# Altium footprint library R20_PCBM.PcbLib: 22 footprints (part 2 of 5)
Each footprint in its own frame and in the unit in brackets; x right, y up, seen from the top. Pads: shape width x height; smd on the part's side, far side on the other; paste and mask are expansions set on the pad; w line width, h text height; cw(c..) or ccw(c..) is an arc to the next point about the centre after c.
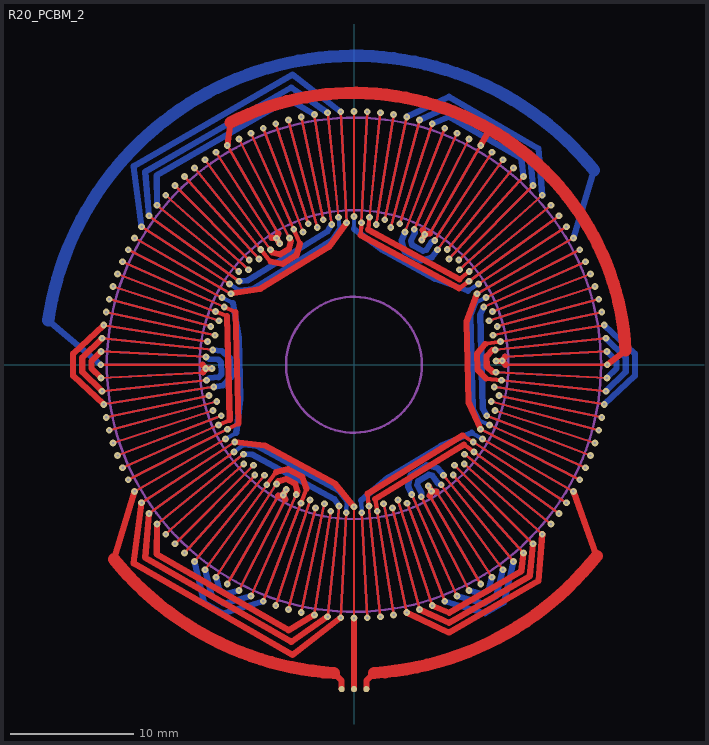
[diagram p1: the footprint, top view; thin cyan lines are the x and y axes]

## R20_PCBM_2 [mm]
pads (3):
  round 0.5 smd paste-2539.97 mask+0.102: A(1,-26.25) B(0,-26.25) C(-1,-26.25)
via -11.852,1.877 diameter 0.55 hole 0.2
via -10.506,4.677 diameter 0.55 hole 0.2
via -11.203,4.3 diameter 0.55 hole 0.2
via -10.692,5.448 diameter 0.55 hole 0.2
via -10.937,3.554 diameter 0.55 hole 0.2
via -11.249,2.391 diameter 0.55 hole 0.2
via -11.413,-3.708 diameter 0.55 hole 0.2
via -11.108,-2.976 diameter 0.55 hole 0.2
via -11.358,-1.799 diameter 0.55 hole 0.2
via -11.437,1.202 diameter 0.55 hole 0.2
via -11.934,-1.254 diameter 0.55 hole 0.2
via -11.996,-0.314 diameter 0.55 hole 0.2
via -11.591,3.106 diameter 0.55 hole 0.2
via -11.984,0.628 diameter 0.55 hole 0.2
via -11.738,-2.495 diameter 0.55 hole 0.2
via -10.736,-4.121 diameter 0.55 hole 0.2
via -20.5,0 diameter 0.55 hole 0.2
via -18.728,8.338 diameter 0.55 hole 0.2
via -19.497,6.335 diameter 0.55 hole 0.2
via -20.052,4.262 diameter 0.55 hole 0.2
via -20.388,2.143 diameter 0.55 hole 0.2
via -20.388,-2.143 diameter 0.55 hole 0.2
via -20.248,-3.207 diameter 0.55 hole 0.2
via -20.472,-1.073 diameter 0.55 hole 0.2
via -20.472,1.073 diameter 0.55 hole 0.2
via -20.248,3.207 diameter 0.55 hole 0.2
via -19.801,5.306 diameter 0.55 hole 0.2
via -19.138,7.347 diameter 0.55 hole 0.2
via -18.266,9.307 diameter 0.55 hole 0.2
via -20.052,-4.262 diameter 0.55 hole 0.2
via -19.497,-6.335 diameter 0.55 hole 0.2
via -19.801,-5.306 diameter 0.55 hole 0.2
via -19.138,-7.347 diameter 0.55 hole 0.2
via -10.392,-6 diameter 0.55 hole 0.2
via -10.247,-5.221 diameter 0.55 hole 0.2
via -10.963,-4.881 diameter 0.55 hole 0.2
via -18.728,-8.338 diameter 0.55 hole 0.2
via -18.266,-9.307 diameter 0.55 hole 0.2
via -17.754,-10.25 diameter 0.55 hole 0.2
via -11.496,-0.301 diameter 0.55 hole 0.2
via -6.009,9.805 diameter 0.55 hole 0.2
via -6.27,10.232 diameter 0.55 hole 0.2
via -10.25,17.754 diameter 0.55 hole 0.2
via -2.143,20.388 diameter 0.55 hole 0.2
via -4.262,20.052 diameter 0.55 hole 0.2
via -6.335,19.497 diameter 0.55 hole 0.2
via -8.338,18.728 diameter 0.55 hole 0.2
via -12.05,16.585 diameter 0.55 hole 0.2
via -12.901,15.931 diameter 0.55 hole 0.2
via -11.165,17.193 diameter 0.55 hole 0.2
via -9.307,18.266 diameter 0.55 hole 0.2
via -7.347,19.138 diameter 0.55 hole 0.2
via -5.306,19.801 diameter 0.55 hole 0.2
via -3.207,20.248 diameter 0.55 hole 0.2
via -1.073,20.472 diameter 0.55 hole 0.2
via -13.717,15.234 diameter 0.55 hole 0.2
via -15.234,13.717 diameter 0.55 hole 0.2
via -14.496,14.496 diameter 0.55 hole 0.2
via -15.931,12.901 diameter 0.55 hole 0.2
via -16.585,12.05 diameter 0.55 hole 0.2
via -17.193,11.165 diameter 0.55 hole 0.2
via -17.754,10.25 diameter 0.55 hole 0.2
via -0.602,11.484 diameter 0.55 hole 0.2
via -1.254,11.934 diameter 0.55 hole 0.2
via -1.799,11.358 diameter 0.55 hole 0.2
via -2.495,11.738 diameter 0.55 hole 0.2
via -2.976,11.108 diameter 0.55 hole 0.2
via -3.708,11.413 diameter 0.55 hole 0.2
via -4.121,10.736 diameter 0.55 hole 0.2
via -4.881,10.963 diameter 0.55 hole 0.2
via -5.221,10.247 diameter 0.55 hole 0.2
via -6.76,9.304 diameter 0.55 hole 0.2
via -7.552,9.326 diameter 0.55 hole 0.2
via -7.695,8.546 diameter 0.55 hole 0.2
via -8.485,8.485 diameter 0.55 hole 0.2
via -8.546,7.695 diameter 0.55 hole 0.2
via -9.326,7.552 diameter 0.55 hole 0.2
via -9.304,6.76 diameter 0.55 hole 0.2
via -10.064,6.536 diameter 0.55 hole 0.2
via -9.959,5.75 diameter 0.55 hole 0.2
via 7.552,9.326 diameter 0.55 hole 0.2
via 9.304,6.76 diameter 0.55 hole 0.2
via 9.326,7.552 diameter 0.55 hole 0.2
via 10.064,6.536 diameter 0.55 hole 0.2
via 8.546,7.695 diameter 0.55 hole 0.2
via 7.695,8.546 diameter 0.55 hole 0.2
via 2.495,11.738 diameter 0.55 hole 0.2
via 2.976,11.108 diameter 0.55 hole 0.2
via 4.121,10.736 diameter 0.55 hole 0.2
via 6.76,9.304 diameter 0.55 hole 0.2
via 4.881,10.963 diameter 0.55 hole 0.2
via 5.726,10.546 diameter 0.55 hole 0.2
via 8.485,8.485 diameter 0.55 hole 0.2
via 6.536,10.064 diameter 0.55 hole 0.2
via 3.708,11.413 diameter 0.55 hole 0.2
via 1.799,11.358 diameter 0.55 hole 0.2
via 10.25,17.754 diameter 0.55 hole 0.2
via 16.585,12.05 diameter 0.55 hole 0.2
via 15.234,13.717 diameter 0.55 hole 0.2
via 13.717,15.234 diameter 0.55 hole 0.2
via 12.05,16.585 diameter 0.55 hole 0.2
via 8.338,18.728 diameter 0.55 hole 0.2
via 7.347,19.138 diameter 0.55 hole 0.2
via 9.307,18.266 diameter 0.55 hole 0.2
via 11.165,17.193 diameter 0.55 hole 0.2
via 12.901,15.931 diameter 0.55 hole 0.2
via 14.496,14.496 diameter 0.55 hole 0.2
via 15.931,12.901 diameter 0.55 hole 0.2
via 17.193,11.165 diameter 0.55 hole 0.2
via 6.335,19.497 diameter 0.55 hole 0.2
via 4.262,20.052 diameter 0.55 hole 0.2
via 5.306,19.801 diameter 0.55 hole 0.2
via 3.207,20.248 diameter 0.55 hole 0.2
via 0,12 diameter 0.55 hole 0.2
via 0.602,11.484 diameter 0.55 hole 0.2
via 1.254,11.934 diameter 0.55 hole 0.2
via 2.143,20.388 diameter 0.55 hole 0.2
via 1.073,20.472 diameter 0.55 hole 0.2
via 0,20.5 diameter 0.55 hole 0.2
via 5.487,10.106 diameter 0.55 hole 0.2
via 11.496,0.301 diameter 0.55 hole 0.2
via 11.996,0.314 diameter 0.55 hole 0.2
via 20.5,0 diameter 0.55 hole 0.2
via 18.728,-8.338 diameter 0.55 hole 0.2
via 19.497,-6.335 diameter 0.55 hole 0.2
via 20.052,-4.262 diameter 0.55 hole 0.2
via 20.388,-2.143 diameter 0.55 hole 0.2
via 20.388,2.143 diameter 0.55 hole 0.2
via 20.248,3.207 diameter 0.55 hole 0.2
via 20.472,1.073 diameter 0.55 hole 0.2
via 20.472,-1.073 diameter 0.55 hole 0.2
via 20.248,-3.207 diameter 0.55 hole 0.2
via 19.801,-5.306 diameter 0.55 hole 0.2
via 19.138,-7.347 diameter 0.55 hole 0.2
via 18.266,-9.307 diameter 0.55 hole 0.2
via 20.052,4.262 diameter 0.55 hole 0.2
via 19.497,6.335 diameter 0.55 hole 0.2
via 19.801,5.306 diameter 0.55 hole 0.2
via 19.138,7.347 diameter 0.55 hole 0.2
via 18.728,8.338 diameter 0.55 hole 0.2
via 18.266,9.307 diameter 0.55 hole 0.2
via 17.754,10.25 diameter 0.55 hole 0.2
via 10.247,-5.221 diameter 0.55 hole 0.2
via 10.963,-4.881 diameter 0.55 hole 0.2
via 10.736,-4.121 diameter 0.55 hole 0.2
via 11.413,-3.708 diameter 0.55 hole 0.2
via 11.108,-2.976 diameter 0.55 hole 0.2
via 11.738,-2.495 diameter 0.55 hole 0.2
via 11.358,-1.799 diameter 0.55 hole 0.2
via 11.934,-1.254 diameter 0.55 hole 0.2
via 11.484,-0.602 diameter 0.55 hole 0.2
via 11.437,1.202 diameter 0.55 hole 0.2
via 11.852,1.877 diameter 0.55 hole 0.2
via 11.249,2.391 diameter 0.55 hole 0.2
via 11.591,3.106 diameter 0.55 hole 0.2
via 10.937,3.554 diameter 0.55 hole 0.2
via 11.203,4.3 diameter 0.55 hole 0.2
via 10.506,4.677 diameter 0.55 hole 0.2
via 10.692,5.448 diameter 0.55 hole 0.2
via 9.959,5.75 diameter 0.55 hole 0.2
via 4.3,-11.203 diameter 0.55 hole 0.2
via 1.202,-11.437 diameter 0.55 hole 0.2
via 1.877,-11.852 diameter 0.55 hole 0.2
via 0.628,-11.984 diameter 0.55 hole 0.2
via 2.391,-11.249 diameter 0.55 hole 0.2
via 3.554,-10.937 diameter 0.55 hole 0.2
via 8.918,-8.03 diameter 0.55 hole 0.2
via 8.132,-8.132 diameter 0.55 hole 0.2
via 7.237,-8.937 diameter 0.55 hole 0.2
via 4.677,-10.506 diameter 0.55 hole 0.2
via 7.053,-9.708 diameter 0.55 hole 0.2
via 6.27,-10.232 diameter 0.55 hole 0.2
via 3.106,-11.591 diameter 0.55 hole 0.2
via 5.448,-10.692 diameter 0.55 hole 0.2
via 8.03,-8.918 diameter 0.55 hole 0.2
via 8.937,-7.237 diameter 0.55 hole 0.2
via 10.25,-17.754 diameter 0.55 hole 0.2
via 2.143,-20.388 diameter 0.55 hole 0.2
via 4.262,-20.052 diameter 0.55 hole 0.2
via 6.335,-19.497 diameter 0.55 hole 0.2
via 8.338,-18.728 diameter 0.55 hole 0.2
via 12.05,-16.585 diameter 0.55 hole 0.2
via 12.901,-15.931 diameter 0.55 hole 0.2
via 11.165,-17.193 diameter 0.55 hole 0.2
via 9.307,-18.266 diameter 0.55 hole 0.2
via 7.347,-19.138 diameter 0.55 hole 0.2
via 5.306,-19.801 diameter 0.55 hole 0.2
via 3.207,-20.248 diameter 0.55 hole 0.2
via 1.073,-20.472 diameter 0.55 hole 0.2
via 13.717,-15.234 diameter 0.55 hole 0.2
via 15.234,-13.717 diameter 0.55 hole 0.2
via 14.496,-14.496 diameter 0.55 hole 0.2
via 15.931,-12.901 diameter 0.55 hole 0.2
via 10.392,-6 diameter 0.55 hole 0.2
via 9.645,-6.263 diameter 0.55 hole 0.2
via 9.708,-7.053 diameter 0.55 hole 0.2
via 16.585,-12.05 diameter 0.55 hole 0.2
via 17.193,-11.165 diameter 0.55 hole 0.2
via 17.754,-10.25 diameter 0.55 hole 0.2
via 6.009,-9.805 diameter 0.55 hole 0.2
via -5.487,-10.106 diameter 0.55 hole 0.2
via -5.726,-10.546 diameter 0.55 hole 0.2
via -10.25,-17.754 diameter 0.55 hole 0.2
via -16.585,-12.05 diameter 0.55 hole 0.2
via -15.234,-13.717 diameter 0.55 hole 0.2
via -13.717,-15.234 diameter 0.55 hole 0.2
via -12.05,-16.585 diameter 0.55 hole 0.2
via -8.338,-18.728 diameter 0.55 hole 0.2
via -7.347,-19.138 diameter 0.55 hole 0.2
via -9.307,-18.266 diameter 0.55 hole 0.2
via -11.165,-17.193 diameter 0.55 hole 0.2
via -12.901,-15.931 diameter 0.55 hole 0.2
via -14.496,-14.496 diameter 0.55 hole 0.2
via -15.931,-12.901 diameter 0.55 hole 0.2
via -17.193,-11.165 diameter 0.55 hole 0.2
via -6.335,-19.497 diameter 0.55 hole 0.2
via -4.262,-20.052 diameter 0.55 hole 0.2
via -5.306,-19.801 diameter 0.55 hole 0.2
via -3.207,-20.248 diameter 0.55 hole 0.2
via -2.143,-20.388 diameter 0.55 hole 0.2
via -1.073,-20.472 diameter 0.55 hole 0.2
via 0,-20.5 diameter 0.55 hole 0.2
via -9.645,-6.263 diameter 0.55 hole 0.2
via -9.708,-7.053 diameter 0.55 hole 0.2
via -8.937,-7.237 diameter 0.55 hole 0.2
via -8.918,-8.03 diameter 0.55 hole 0.2
via -8.132,-8.132 diameter 0.55 hole 0.2
via -8.03,-8.918 diameter 0.55 hole 0.2
via -7.237,-8.937 diameter 0.55 hole 0.2
via -7.053,-9.708 diameter 0.55 hole 0.2
via -6.263,-9.645 diameter 0.55 hole 0.2
via -4.677,-10.506 diameter 0.55 hole 0.2
via -4.3,-11.203 diameter 0.55 hole 0.2
via -3.554,-10.937 diameter 0.55 hole 0.2
via -3.106,-11.591 diameter 0.55 hole 0.2
via -2.391,-11.249 diameter 0.55 hole 0.2
via -1.877,-11.852 diameter 0.55 hole 0.2
via -1.202,-11.437 diameter 0.55 hole 0.2
via -0.628,-11.984 diameter 0.55 hole 0.2
via 0,-11.5 diameter 0.55 hole 0.2
via -10.25,17.754 diameter 0.55 hole 0.2
via -17.754,10.25 diameter 0.55 hole 0.2
via 10.25,17.754 diameter 0.55 hole 0.2
via 20.5,0 diameter 0.55 hole 0.2
via 17.754,10.25 diameter 0.55 hole 0.2
Top Layer:
  lines w0.2: -20.5,0 -12.25,0 ; -20.472,-1.073 -12.233,-0.641 ; -20.472,1.073 -11.984,0.628 ; -20.388,-2.143 -11.934,-1.254 ; -20.388,2.143 -11.437,1.202 ; -20.248,-3.207 -11.358,-1.799 ; -20.248,3.207 -11.852,1.877 ; -20.052,-4.262 -11.738,-2.495 ; -20.052,4.262 -11.249,2.391 ; -19.801,-5.306 -11.108,-2.976 ; -19.801,5.306 -11.591,3.106 ; -19.497,-6.335 -11.413,-3.708 ; -19.497,6.335 -10.937,3.554 ; -19.138,-7.347 -10.736,-4.121 ; -19.138,7.347 -11.203,4.3 ; -18.728,-8.338 -10.963,-4.881 ; -18.728,8.338 -10.506,4.677 ; -18.266,-9.307 -10.247,-5.221 ; -18.266,9.307 -10.692,5.448 ; -17.754,-10.25 -10.392,-6 ; -17.754,10.25 -9.959,5.75 ; -17.193,-11.165 -9.645,-6.263 ; -17.193,11.165 -10.064,6.536 ; -16.585,-12.05 -9.708,-7.053 ; -16.585,12.05 -9.304,6.76 ; -15.931,-12.901 -8.937,-7.237 ; -15.931,12.901 -9.326,7.552 ; -15.234,-13.717 -8.918,-8.03 ; -15.234,13.717 -8.546,7.695 ; -14.496,-14.496 -8.132,-8.132 ; -14.496,14.496 -8.485,8.485 ; -13.717,-15.234 -8.03,-8.918 ; -13.717,15.234 -7.695,8.546 ; -12.901,-15.931 -7.237,-8.937 ; -12.901,15.931 -7.552,9.326 ; -12.05,-16.585 -7.053,-9.708 ; -12.05,16.585 -6.76,9.304 ; -11.165,-17.193 -6.263,-9.645 ; -11.165,17.193 -6.672,10.274 ; -10.25,-17.754 -6.125,-10.609 ; -10.25,17.754 -6.125,10.609 ; -9.307,-18.266 -5.561,-10.915 ; -9.307,18.266 -5.221,10.247 ; -8.338,-18.728 -4.677,-10.506 ; -8.338,18.728 -4.881,10.963 ; -7.347,-19.138 -4.3,-11.203 ; -7.347,19.138 -4.121,10.736 ; -6.335,-19.497 -3.554,-10.937 ; -6.335,19.497 -3.708,11.413 ; -5.306,-19.801 -3.106,-11.591 ; -5.306,19.801 -2.976,11.108 ; -4.262,-20.052 -2.391,-11.249 ; -4.262,20.052 -2.495,11.738 ; -3.207,-20.248 -1.877,-11.852 ; -3.207,20.248 -1.799,11.358 ; -2.143,-20.388 -1.202,-11.437 ; -2.143,20.388 -1.254,11.934 ; -1.073,-20.472 -0.628,-11.984 ; -1.073,20.472 -0.602,11.484 ; 0,-20.5 0,-11.5 ; 0,12 0,20.5 ; 0.602,11.484 1.073,20.472 ; 0.628,-11.984 1.073,-20.472 ; 1.202,-11.437 2.143,-20.388 ; 1.254,11.934 2.143,20.388 ; 1.799,11.358 3.207,20.248 ; 1.877,-11.852 3.207,-20.248 ; 2.391,-11.249 4.262,-20.052 ; 2.495,11.738 4.262,20.052 ; 2.976,11.108 5.306,19.801 ; 3.106,-11.591 5.306,-19.801 ; 3.554,-10.937 6.335,-19.497 ; 3.708,11.413 6.335,19.497 ; 4.121,10.736 7.347,19.138 ; 4.3,-11.203 7.347,-19.138 ; 4.677,-10.506 8.338,-18.728 ; 4.881,10.963 8.338,18.728 ; 5.448,-10.692 9.307,-18.266 ; 5.561,10.915 9.307,18.266 ; 6.125,-10.609 10.25,-17.754 ; 6.125,10.609 10.25,17.754 ; 6.536,10.064 11.165,17.193 ; 6.672,-10.274 11.165,-17.193 ; 6.76,9.304 12.05,16.585 ; 7.053,-9.708 12.05,-16.585 ; 7.237,-8.937 12.901,-15.931 ; 7.552,9.326 12.901,15.931 ; 7.695,8.546 13.717,15.234 ; 8.03,-8.918 13.717,-15.234 ; 8.132,-8.132 14.496,-14.496 ; 8.485,8.485 14.496,14.496 ; 8.546,7.695 15.234,13.717 ; 8.918,-8.03 15.234,-13.717 ; 8.937,-7.237 15.931,-12.901 ; 9.304,6.76 16.585,12.05 ; 9.326,7.552 15.931,12.901 ; 9.645,-6.263 17.193,-11.165 ; 9.708,-7.053 16.585,-12.05 ; 9.959,5.75 17.754,10.25 ; 10.064,6.536 17.193,11.165 ; 10.247,-5.221 18.266,-9.307 ; 10.392,-6 17.754,-10.25 ; 10.506,4.677 18.728,8.338 ; 10.692,5.448 18.266,9.307 ; 10.736,-4.121 19.138,-7.347 ; 10.937,3.554 19.497,6.335 ; 10.963,-4.881 18.728,-8.338 ; 11.108,-2.976 19.801,-5.306 ; 11.203,4.3 19.138,7.347 ; 11.249,2.391 20.052,4.262 ; 11.358,-1.799 20.248,-3.207 ; 11.413,-3.708 19.497,-6.335 ; 11.437,1.202 20.388,2.143 ; 11.484,-0.602 20.472,-1.073 ; 11.591,3.106 19.801,5.306 ; 11.738,-2.495 20.052,-4.262 ; 11.852,1.877 20.248,3.207 ; 11.934,-1.254 20.388,-2.143 ; 12.233,0.641 20.472,1.073 ; 12.25,0 20.5,0
  lines w0.35: -11.203,4.3 -10.269,3.942 ; -10.963,-4.881 -10.049,-4.474 ; -10.506,4.677 -9.592,4.271 ; -10.247,-5.221 -9.356,-4.767 ; -7.552,9.326 -6.765,8.354 ; -7.053,-9.708 -6.319,-8.697 ; -4.881,10.963 -4.372,9.821 ; -4.3,-11.203 -3.852,-10.036 ; 0.55,10.486 0.602,11.484 ; 1.098,-10.442 1.202,-11.437 ; 1.15,10.94 1.254,11.934 ; 1.721,-10.865 1.877,-11.852 ; 8.495,6.172 9.304,6.76 ; 8.549,6.923 9.326,7.552 ; 8.806,-5.719 9.645,-6.263 ; 8.899,-6.466 9.708,-7.053 ; 10.618,1.682 11.852,1.877 ; 10.691,-1.124 11.934,-1.254
  lines w0.5: -20.472,-1.073 -21.248,-0.278 -21.248,0.278 -20.472,1.073 ; -20.388,-2.143 -21.992,-0.576 -21.992,0.576 -20.388,2.143 ; -20.248,-3.207 -22.732,-0.893 -22.732,0.893 -20.248,3.207 ; -19.429,-15.733 -17.754,-10.25 ; -17.193,-11.165 -17.835,-16.059 -4.99,-23.475 -1.073,-20.472 ; -16.585,-12.05 -16.889,-15.612 -5.076,-22.433 -2.143,-20.388 ; -15.931,-12.901 -15.96,-15.323 -5.29,-21.483 -3.207,-20.248 ; -12.25,0 -11.996,-0.314 ; -12.233,-0.641 -11.996,-0.314 ; -11.496,-0.301 -11.996,-0.314 ; -10.269,3.942 -10.049,-4.474 ; -10.25,17.754 -9.988,19.602 ; -9.959,5.75 -7.577,6.136 -2.027,9.537 -0.602,11.484 ; -9.645,-6.263 -7.246,-6.524 -1.525,-9.63 0,-11.5 ; -9.592,4.271 -9.356,-4.767 ; -6.765,8.354 -5.771,8.166 -4.656,8.85 -4.372,9.821 ; -6.76,9.304 -6.613,9.101 -5.972,8.938 -5.253,9.379 -5.107,10.024 -5.221,10.247 ; -6.672,10.274 -6.27,10.232 ; -6.319,-8.697 -5.336,-8.457 -4.187,-9.081 -3.852,-10.036 ; -6.263,-9.645 -6.127,-9.435 -5.496,-9.239 -4.755,-9.641 -4.576,-10.277 -4.677,-10.506 ; -6.125,-10.609 -5.726,-10.546 ; -6.125,10.609 -6.27,10.232 ; -6.009,9.805 -6.27,10.232 ; -5.561,-10.915 -5.726,-10.546 ; -5.487,-10.106 -5.726,-10.546 ; -1.635,-24.946 -1,-25.582 -1,-26.25 ; 0,-26.25 0,-20.5 ; 0.55,10.486 8.495,6.172 ; 1,-26.25 1,-25.581 1.635,-24.946 ; 1.098,-10.442 8.806,-5.719 ; 1.15,10.94 8.549,6.923 ; 1.721,-10.865 8.899,-6.466 ; 4.262,-20.052 7.678,-21.681 14.937,-17.489 15.234,-13.717 ; 5.306,-19.801 7.701,-20.875 14.227,-17.107 14.496,-14.496 ; 5.487,10.106 5.726,10.546 ; 5.561,10.915 5.726,10.546 ; 6.009,-9.805 6.27,-10.232 ; 6.125,-10.609 6.27,-10.232 ; 6.125,10.609 5.726,10.546 ; 6.335,-19.497 7.705,-20.072 13.53,-16.709 13.717,-15.234 ; 6.672,-10.274 6.27,-10.232 ; 9.959,5.75 9.102,3.494 9.273,-3.013 10.247,-5.221 ; 10.25,17.754 11,19.053 ; 10.618,1.682 9.958,0.915 9.992,-0.393 10.691,-1.124 ; 11.437,1.202 11.188,1.176 10.727,0.703 10.749,-0.141 11.235,-0.589 11.484,-0.602 ; 11.496,0.301 11.996,0.314 ; 12.233,0.641 11.996,0.314 ; 12.25,0 11.996,0.314 ; 17.753,-10.25 19.633,-15.477 ; 20.5,0 21.97,1.151
  lines w1: -19.429,-15.733 ccw(c0,0) -1.635,-24.946 ; -9.988,19.602 cw(c0,0) 21.97,1.151 ; 1.635,-24.946 ccw(c0,0) 19.633,-15.477
Layer 1:
  lines w0.2: -20.5,0 -12.25,0 ; -20.472,-1.073 -12.233,-0.641 ; -20.472,1.073 -11.984,0.628 ; -20.388,-2.143 -11.934,-1.254 ; -20.388,2.143 -11.437,1.202 ; -20.248,-3.207 -11.358,-1.799 ; -20.248,3.207 -11.852,1.877 ; -20.052,-4.262 -11.738,-2.495 ; -20.052,4.262 -11.249,2.391 ; -19.801,-5.306 -11.108,-2.976 ; -19.801,5.306 -11.591,3.106 ; -19.497,-6.335 -11.413,-3.708 ; -19.497,6.335 -10.937,3.554 ; -19.138,-7.347 -10.736,-4.121 ; -19.138,7.347 -11.203,4.3 ; -18.728,-8.338 -10.963,-4.881 ; -18.728,8.338 -10.506,4.677 ; -18.266,-9.307 -10.247,-5.221 ; -18.266,9.307 -10.692,5.448 ; -17.754,-10.25 -10.392,-6 ; -17.754,10.25 -9.959,5.75 ; -17.193,-11.165 -9.645,-6.263 ; -17.193,11.165 -10.064,6.536 ; -16.585,-12.05 -9.708,-7.053 ; -16.585,12.05 -9.304,6.76 ; -15.931,-12.901 -8.937,-7.237 ; -15.931,12.901 -9.326,7.552 ; -15.234,-13.717 -8.918,-8.03 ; -15.234,13.717 -8.546,7.695 ; -14.496,-14.496 -8.132,-8.132 ; -14.496,14.496 -8.485,8.485 ; -13.717,-15.234 -8.03,-8.918 ; -13.717,15.234 -8.03,8.918 -7.695,8.546 ; -12.901,-15.931 -7.237,-8.937 ; -12.901,15.931 -7.552,9.326 ; -12.05,-16.585 -7.053,-9.708 ; -12.05,16.585 -6.76,9.304 ; -11.165,-17.193 -6.263,-9.645 ; -11.165,17.193 -6.672,10.274 ; -10.25,-17.754 -6.125,-10.609 ; -10.25,17.754 -6.125,10.609 ; -9.307,-18.266 -5.561,-10.915 ; -9.307,18.266 -5.221,10.247 ; -8.338,-18.728 -4.677,-10.506 ; -8.338,18.728 -4.881,10.963 ; -7.347,-19.138 -4.3,-11.203 ; -7.347,19.138 -4.121,10.736 ; -6.335,-19.497 -3.708,-11.413 -3.554,-10.937 ; -6.335,19.497 -3.708,11.413 ; -5.306,-19.801 -3.106,-11.591 ; -5.306,19.801 -2.976,11.108 ; -4.262,-20.052 -2.391,-11.249 ; -4.262,20.052 -2.495,11.738 ; -3.207,-20.248 -1.877,-11.852 ; -3.207,20.248 -1.799,11.358 ; -2.143,-20.388 -1.202,-11.437 ; -2.143,20.388 -1.254,11.934 ; -1.073,-20.472 -0.628,-11.984 ; -1.073,20.472 -0.602,11.484 ; 0,-20.5 0,-11.5 ; 0,12 0,20.5 ; 0.602,11.484 1.073,20.472 ; 0.628,-11.984 1.073,-20.472 ; 1.202,-11.437 2.143,-20.388 ; 1.254,11.934 2.143,20.388 ; 1.799,11.358 3.207,20.248 ; 1.877,-11.852 3.207,-20.248 ; 2.391,-11.249 4.262,-20.052 ; 2.495,11.738 4.262,20.052 ; 2.976,11.108 5.306,19.801 ; 3.106,-11.591 5.306,-19.801 ; 3.554,-10.937 6.335,-19.497 ; 3.708,11.413 6.335,19.497 ; 4.121,10.736 7.347,19.138 ; 4.3,-11.203 7.347,-19.138 ; 4.677,-10.506 8.338,-18.728 ; 4.881,10.963 8.338,18.728 ; 5.448,-10.692 9.307,-18.266 ; 5.561,10.915 9.307,18.266 ; 6.125,-10.609 10.25,-17.754 ; 6.125,10.609 10.25,17.754 ; 6.536,10.064 11.165,17.193 ; 6.672,-10.274 11.165,-17.193 ; 6.76,9.304 12.05,16.585 ; 7.053,-9.708 12.05,-16.585 ; 7.237,-8.937 12.901,-15.931 ; 7.552,9.326 12.901,15.931 ; 7.695,8.546 13.717,15.234 ; 8.03,-8.918 13.717,-15.234 ; 8.132,-8.132 14.496,-14.496 ; 8.485,8.485 14.496,14.496 ; 8.546,7.695 15.234,13.717 ; 8.918,-8.03 15.234,-13.717 ; 8.937,-7.237 15.931,-12.901 ; 9.304,6.76 16.585,12.05 ; 9.326,7.552 15.931,12.901 ; 9.645,-6.263 17.193,-11.165 ; 9.708,-7.053 16.585,-12.05 ; 9.959,5.75 17.754,10.25 ; 10.064,6.536 17.193,11.165 ; 10.247,-5.221 18.266,-9.307 ; 10.392,-6 17.754,-10.25 ; 10.506,4.677 18.728,8.338 ; 10.692,5.448 18.266,9.307 ; 10.736,-4.121 19.138,-7.347 ; 10.937,3.554 19.497,6.335 ; 10.963,-4.881 18.728,-8.338 ; 11.108,-2.976 19.801,-5.306 ; 11.203,4.3 19.138,7.347 ; 11.249,2.391 11.738,2.495 20.052,4.262 ; 11.358,-1.799 20.248,-3.207 ; 11.413,-3.708 19.497,-6.335 ; 11.437,1.202 20.388,2.143 ; 11.484,-0.602 20.472,-1.073 ; 11.591,3.106 19.801,5.306 ; 11.738,-2.495 20.052,-4.262 ; 11.852,1.877 20.248,3.207 ; 11.934,-1.254 20.388,-2.143 ; 12.233,0.641 20.472,1.073 ; 12.25,0 20.5,0
  lines w0.35: -11.852,1.877 -10.865,1.721 ; -11.738,-2.495 -10.76,-2.287 ; -11.249,2.391 -10.271,2.183 ; -11.108,-2.976 -10.142,-2.718 ; -8.485,8.485 -7.778,7.778 ; -8.03,-8.918 -7.36,-8.175 ; -3.708,11.413 -3.399,10.462 ; -3.106,-11.591 -2.847,-10.625 ; 2.718,10.142 2.976,11.108 ; 3.245,-9.986 3.554,-10.937 ; 3.399,10.462 3.708,11.413 ; 3.942,-10.269 4.3,-11.203 ; 6.923,8.549 7.552,9.326 ; 7.026,7.803 7.695,8.546 ; 7.36,-8.175 8.03,-8.918 ; 7.425,-7.425 8.132,-8.132 ; 10.625,2.847 11.591,3.106 ; 10.76,-2.287 11.738,-2.495
  lines w0.5: -23.339,8.959 -17.754,10.25 ; -20.052,-4.262 -21.235,-3.363 -21.235,3.363 -20.052,4.262 ; -19.801,-5.306 -21.929,-3.768 -21.929,3.768 -19.801,5.306 ; -19.497,-6.335 -22.615,-4.191 -22.615,4.191 -19.497,6.335 ; -15.234,-13.717 -14.937,-17.489 -7.678,-21.681 -4.262,-20.052 ; -15.234,13.717 -14.937,17.489 -7.678,21.681 -4.262,20.052 ; -14.496,-14.496 -14.227,-17.107 -7.701,-20.875 -5.306,-19.801 ; -14.496,14.496 -14.227,17.107 -7.701,20.875 -5.306,19.801 ; -13.717,-15.234 -13.53,-16.709 -7.705,-20.072 -6.335,-19.497 ; -13.717,15.234 -13.53,16.709 -7.705,20.072 -6.335,19.497 ; -12.25,0 -11.996,-0.314 ; -12.233,-0.641 -11.996,-0.314 ; -11.496,-0.301 -11.996,-0.314 ; -10.865,1.721 -10.456,0.961 -10.391,-1.507 -10.76,-2.287 ; -10.271,2.183 -9.697,1.019 -9.63,-1.525 -10.142,-2.718 ; -7.778,7.778 -6.593,7.518 -3.706,9.288 -3.399,10.462 ; -7.695,8.546 -6.765,8.354 -4.372,9.821 -4.121,10.736 ; -7.36,-8.175 -6.191,-7.853 -3.214,-9.469 -2.847,-10.625 ; -7.237,-8.937 -6.319,-8.697 -3.852,-10.036 -3.554,-10.937 ; -6.672,10.274 -6.27,10.232 ; -6.125,-10.609 -5.726,-10.546 ; -6.125,10.609 -6.27,10.232 ; -6.009,9.805 -6.27,10.232 ; -5.561,-10.915 -5.726,-10.546 ; -5.487,-10.106 -5.726,-10.546 ; 2.718,10.142 3.494,9.102 5.731,7.888 7.026,7.803 ; 3.245,-9.986 3.966,-8.907 6.136,-7.577 7.425,-7.425 ; 3.399,10.462 3.891,9.752 6.06,8.575 6.923,8.549 ; 3.942,-10.269 4.396,-9.535 6.5,-8.246 7.36,-8.175 ; 5.487,10.106 5.726,10.546 ; 5.561,10.915 5.726,10.546 ; 6.009,-9.805 6.27,-10.232 ; 6.125,-10.609 6.27,-10.232 ; 6.125,10.609 5.726,10.546 ; 6.672,-10.274 6.27,-10.232 ; 7.347,19.138 10.593,20.133 12.14,19.24 12.901,15.931 ; 8.338,18.728 10.497,19.334 11.495,18.758 12.05,16.585 ; 9.264,-23.22 10.25,-17.754 ; 9.307,18.266 10.383,18.54 10.865,18.262 11.165,17.193 ; 10.625,2.847 9.808,1.951 9.896,-1.435 10.76,-2.287 ; 11.249,2.391 10.618,1.682 10.691,-1.124 11.358,-1.799 ; 11.496,0.301 11.996,0.314 ; 12.233,0.641 11.996,0.314 ; 12.25,0 11.996,0.314 ; 19.497,-6.335 22.615,-4.191 22.615,4.191 19.497,6.335 ; 19.801,-5.306 21.929,-3.768 21.929,3.768 19.801,5.306 ; 20.052,-4.262 21.235,-3.363 21.235,3.363 20.052,4.262
  lines w1: -23.339,8.959 ccw(c0,0) 9.264,-23.22 cw(c0,0) -23.339,8.959
Layer 2:
  lines w0.2: -20.5,0 -12.25,0 ; -20.472,-1.073 -12.233,-0.641 ; -20.472,1.073 -11.984,0.628 ; -20.388,-2.143 -11.934,-1.254 ; -20.388,2.143 -11.437,1.202 ; -20.248,-3.207 -11.358,-1.799 ; -20.248,3.207 -11.852,1.877 ; -20.052,-4.262 -11.738,-2.495 ; -20.052,4.262 -11.249,2.391 ; -19.801,-5.306 -11.108,-2.976 ; -19.801,5.306 -11.591,3.106 ; -19.497,-6.335 -11.413,-3.708 ; -19.497,6.335 -10.937,3.554 ; -19.138,-7.347 -10.736,-4.121 ; -19.138,7.347 -11.203,4.3 ; -18.728,-8.338 -10.963,-4.881 ; -18.728,8.338 -10.506,4.677 ; -18.266,-9.307 -10.247,-5.221 ; -18.266,9.307 -10.692,5.448 ; -17.754,-10.25 -10.392,-6 ; -17.754,10.25 -9.959,5.75 ; -17.193,-11.165 -9.645,-6.263 ; -17.193,11.165 -10.064,6.536 ; -16.585,-12.05 -9.708,-7.053 ; -16.585,12.05 -9.304,6.76 ; -15.931,-12.901 -8.937,-7.237 ; -15.931,12.901 -9.326,7.552 ; -15.234,-13.717 -8.918,-8.03 ; -15.234,13.717 -8.546,7.695 ; -14.496,-14.496 -8.132,-8.132 ; -14.496,14.496 -8.485,8.485 ; -13.717,-15.234 -8.03,-8.918 ; -13.717,15.234 -7.695,8.546 ; -12.901,-15.931 -7.237,-8.937 ; -12.901,15.931 -7.552,9.326 ; -12.05,-16.585 -7.053,-9.708 ; -12.05,16.585 -6.76,9.304 ; -11.165,-17.193 -6.263,-9.645 ; -11.165,17.193 -6.672,10.274 ; -10.25,-17.754 -6.125,-10.609 ; -10.25,17.754 -6.125,10.609 ; -9.307,-18.266 -5.561,-10.915 ; -9.307,18.266 -5.221,10.247 ; -8.338,-18.728 -4.677,-10.506 ; -8.338,18.728 -4.881,10.963 ; -7.347,-19.138 -4.3,-11.203 ; -7.347,19.138 -4.121,10.736 ; -6.335,-19.497 -3.554,-10.937 ; -6.335,19.497 -3.708,11.413 ; -5.306,-19.801 -3.106,-11.591 ; -5.306,19.801 -2.976,11.108 ; -4.262,-20.052 -2.391,-11.249 ; -4.262,20.052 -2.495,11.738 ; -3.207,-20.248 -1.877,-11.852 ; -3.207,20.248 -1.799,11.358 ; -2.143,-20.388 -1.202,-11.437 ; -2.143,20.388 -1.254,11.934 ; -1.073,-20.472 -0.628,-11.984 ; -1.073,20.472 -0.602,11.484 ; 0,-20.5 0,-11.5 ; 0,12 0,20.5 ; 0.602,11.484 1.073,20.472 ; 0.628,-11.984 1.073,-20.472 ; 1.202,-11.437 2.143,-20.388 ; 1.254,11.934 2.143,20.388 ; 1.799,11.358 3.207,20.248 ; 1.877,-11.852 3.207,-20.248 ; 2.391,-11.249 4.262,-20.052 ; 2.495,11.738 4.262,20.052 ; 2.976,11.108 5.306,19.801 ; 3.106,-11.591 5.306,-19.801 ; 3.554,-10.937 6.335,-19.497 ; 3.708,11.413 6.335,19.497 ; 4.121,10.736 7.347,19.138 ; 4.3,-11.203 7.347,-19.138 ; 4.677,-10.506 8.338,-18.728 ; 4.881,10.963 8.338,18.728 ; 5.448,-10.692 9.307,-18.266 ; 5.561,10.915 9.307,18.266 ; 6.125,-10.609 10.25,-17.754 ; 6.125,10.609 10.25,17.754 ; 6.536,10.064 11.165,17.193 ; 6.672,-10.274 11.165,-17.193 ; 6.76,9.304 12.05,16.585 ; 7.053,-9.708 12.05,-16.585 ; 7.237,-8.937 12.901,-15.931 ; 7.552,9.326 12.901,15.931 ; 7.695,8.546 13.717,15.234 ; 8.03,-8.918 13.717,-15.234 ; 8.132,-8.132 14.496,-14.496 ; 8.485,8.485 14.496,14.496 ; 8.546,7.695 15.234,13.717 ; 8.918,-8.03 15.234,-13.717 ; 8.937,-7.237 15.931,-12.901 ; 9.304,6.76 16.585,12.05 ; 9.326,7.552 15.931,12.901 ; 9.645,-6.263 17.193,-11.165 ; 9.708,-7.053 16.585,-12.05 ; 9.959,5.75 17.754,10.25 ; 10.064,6.536 17.193,11.165 ; 10.247,-5.221 18.266,-9.307 ; 10.392,-6 17.754,-10.25 ; 10.506,4.677 18.728,8.338 ; 10.692,5.448 18.266,9.307 ; 10.736,-4.121 19.138,-7.347 ; 10.937,3.554 19.497,6.335 ; 10.963,-4.881 18.728,-8.338 ; 11.108,-2.976 19.801,-5.306 ; 11.203,4.3 19.138,7.347 ; 11.249,2.391 20.052,4.262 ; 11.358,-1.799 20.248,-3.207 ; 11.413,-3.708 19.497,-6.335 ; 11.437,1.202 20.388,2.143 ; 11.484,-0.602 20.472,-1.073 ; 11.591,3.106 19.801,5.306 ; 11.738,-2.495 20.052,-4.262 ; 11.852,1.877 20.248,3.207 ; 11.934,-1.254 20.388,-2.143 ; 12.233,0.641 20.472,1.073 ; 12.25,0 20.5,0
  lines w0.35: -11.591,3.106 -10.625,2.847 ; -11.413,-3.708 -10.462,-3.399 ; -10.937,3.554 -9.986,3.245 ; -10.736,-4.121 -9.803,-3.763 ; -9.326,7.552 -8.549,6.923 ; -8.918,-8.03 -8.175,-7.36 ; -2.495,11.738 -2.287,10.76 ; -1.877,-11.852 -1.721,-10.865 ; 1.643,10.371 1.799,11.358 ; 2.183,-10.271 2.391,-11.249 ; 2.287,10.76 2.495,11.738 ; 2.847,-10.625 3.106,-11.591 ; 7.778,7.778 8.485,8.485 ; 7.803,7.026 8.546,7.695 ; 8.16,-6.608 8.937,-7.237 ; 8.175,-7.36 8.918,-8.03 ; 10.269,3.942 11.203,4.3 ; 10.462,-3.399 11.413,-3.708
  lines w0.5: -19.138,-7.347 -21.25,-6.161 -21.25,6.161 -19.138,7.347 ; -18.728,-8.338 -21.965,-6.82 -21.965,6.82 -18.728,8.338 ; -18.266,-9.307 -22.825,-7.416 -22.825,7.416 -18.266,9.307 ; -15.477,-19.633 -10.25,-17.754 ; -12.901,15.931 -12.14,19.24 -10.593,20.133 -7.347,19.138 ; -12.25,0 -11.996,-0.314 ; -12.233,-0.641 -11.996,-0.314 ; -12.05,16.585 -11.495,18.758 -10.497,19.334 -8.338,18.728 ; -11.496,-0.301 -11.996,-0.314 ; -11.165,17.193 -10.865,18.262 -10.383,18.541 -9.307,18.266 ; -10.625,2.847 -10.453,2.51 -10.307,-3.053 -10.462,-3.399 ; -9.986,3.245 -9.692,2.462 -9.55,-2.965 -9.803,-3.763 ; -8.549,6.923 -7.163,6.978 -2.965,9.55 -2.287,10.76 ; -8.546,7.695 -7.501,7.7 -3.455,10.179 -2.976,11.108 ; -8.175,-7.36 -6.788,-7.343 -2.462,-9.692 -1.721,-10.865 ; -8.132,-8.132 -7.088,-8.082 -2.918,-10.346 -2.391,-11.249 ; -6.672,10.274 -6.27,10.232 ; -6.125,-10.609 -5.726,-10.546 ; -6.125,10.609 -6.27,10.232 ; -6.009,9.805 -6.27,10.232 ; -5.561,-10.915 -5.726,-10.546 ; -5.487,-10.106 -5.726,-10.546 ; -3.911,24.692 0,20.5 ; 1.073,-20.472 4.99,-23.475 17.835,-16.059 17.193,-11.165 ; 1.073,20.472 4.99,23.475 17.835,16.059 17.193,11.165 ; 1.643,10.371 2.207,9.753 6.978,7.163 7.803,7.026 ; 2.143,-20.388 5.076,-22.433 16.889,-15.612 16.585,-12.05 ; 2.143,20.388 5.076,22.433 16.889,15.612 16.585,12.05 ; 2.183,-10.271 2.714,-9.625 7.343,-6.788 8.16,-6.608 ; 2.287,10.76 2.51,10.453 7.4,7.798 7.778,7.778 ; 2.847,-10.625 3.053,-10.307 7.798,-7.4 8.175,-7.36 ; 3.207,-20.248 5.29,-21.483 15.96,-15.323 15.931,-12.901 ; 3.207,20.248 5.29,21.483 15.96,15.323 15.931,12.901 ; 5.487,10.106 5.726,10.546 ; 5.561,10.915 5.726,10.546 ; 6.009,-9.805 6.27,-10.232 ; 6.125,-10.609 6.27,-10.232 ; 6.125,10.609 5.726,10.546 ; 6.672,-10.274 6.27,-10.232 ; 10.269,3.942 9.625,2.714 9.753,-2.207 10.462,-3.399 ; 10.937,3.554 10.419,2.646 10.543,-2.097 11.108,-2.976 ; 11.496,0.301 11.996,0.314 ; 12.233,0.641 11.996,0.314 ; 12.25,0 11.996,0.314 ; 18.266,-9.307 22.825,-7.416 22.825,7.416 18.266,9.307 ; 18.728,-8.338 21.965,-6.82 21.965,6.82 18.728,8.338 ; 19.138,-7.347 21.25,-6.161 21.25,6.161 19.138,7.347
  lines w1: -15.477,-19.633 cw(c0,0) -3.911,24.692 ccw(c0,0) -15.477,-19.633
Bottom Layer:
  lines w0.2: -20.5,0 -12.25,0 ; -20.472,-1.073 -12.233,-0.641 ; -20.472,1.073 -11.984,0.628 ; -20.388,-2.143 -11.934,-1.254 ; -20.388,2.143 -11.437,1.202 ; -20.248,-3.207 -11.358,-1.799 ; -20.248,3.207 -11.852,1.877 ; -20.052,-4.262 -11.738,-2.495 ; -20.052,4.262 -11.249,2.391 ; -19.801,-5.306 -11.108,-2.976 ; -19.801,5.306 -11.591,3.106 ; -19.497,-6.335 -11.413,-3.708 ; -19.497,6.335 -10.937,3.554 ; -19.138,-7.347 -10.736,-4.121 ; -19.138,7.347 -11.203,4.3 ; -18.728,-8.338 -10.963,-4.881 ; -18.728,8.338 -10.506,4.677 ; -18.266,-9.307 -10.247,-5.221 ; -18.266,9.307 -10.692,5.448 ; -17.754,-10.25 -10.392,-6 ; -17.754,10.25 -9.959,5.75 ; -17.193,-11.165 -9.645,-6.263 ; -17.193,11.165 -10.064,6.536 ; -16.585,-12.05 -9.708,-7.053 ; -16.585,12.05 -9.304,6.76 ; -15.931,-12.901 -8.937,-7.237 ; -15.931,12.901 -9.326,7.552 ; -15.234,-13.717 -8.918,-8.03 ; -15.234,13.717 -8.546,7.695 ; -14.496,-14.496 -8.132,-8.132 ; -14.496,14.496 -8.485,8.485 ; -13.717,-15.234 -8.03,-8.918 ; -13.717,15.234 -7.695,8.546 ; -12.901,-15.931 -7.237,-8.937 ; -12.901,15.931 -7.552,9.326 ; -12.05,-16.585 -7.053,-9.708 ; -12.05,16.585 -6.76,9.304 ; -11.165,-17.193 -6.263,-9.645 ; -11.165,17.193 -6.672,10.274 ; -10.25,-17.754 -6.125,-10.609 ; -10.25,17.754 -6.125,10.609 ; -9.307,-18.266 -5.561,-10.915 ; -9.307,18.266 -5.221,10.247 ; -8.338,-18.728 -4.677,-10.506 ; -8.338,18.728 -4.881,10.963 ; -7.347,-19.138 -4.3,-11.203 ; -7.347,19.138 -4.121,10.736 ; -6.335,-19.497 -3.554,-10.937 ; -6.335,19.497 -3.708,11.413 ; -5.306,-19.801 -3.106,-11.591 ; -5.306,19.801 -2.976,11.108 ; -4.262,-20.052 -2.391,-11.249 ; -4.262,20.052 -2.495,11.738 ; -3.207,-20.248 -1.877,-11.852 ; -3.207,20.248 -1.799,11.358 ; -2.143,-20.388 -1.202,-11.437 ; -2.143,20.388 -1.254,11.934 ; -1.073,-20.472 -0.628,-11.984 ; -1.073,20.472 -0.602,11.484 ; 0,-20.5 0,-11.5 ; 0,12 0,20.5 ; 0.602,11.484 1.073,20.472 ; 0.628,-11.984 1.073,-20.472 ; 1.202,-11.437 2.143,-20.388 ; 1.254,11.934 2.143,20.388 ; 1.799,11.358 3.207,20.248 ; 1.877,-11.852 3.207,-20.248 ; 2.391,-11.249 4.262,-20.052 ; 2.495,11.738 4.262,20.052 ; 2.976,11.108 5.306,19.801 ; 3.106,-11.591 5.306,-19.801 ; 3.554,-10.937 6.335,-19.497 ; 3.708,11.413 6.335,19.497 ; 4.121,10.736 7.347,19.138 ; 4.3,-11.203 7.347,-19.138 ; 4.677,-10.506 8.338,-18.728 ; 4.881,10.963 8.338,18.728 ; 5.448,-10.692 9.307,-18.266 ; 5.561,10.915 9.307,18.266 ; 6.125,-10.609 10.25,-17.754 ; 6.125,10.609 10.25,17.754 ; 6.536,10.064 11.165,17.193 ; 6.672,-10.274 11.165,-17.193 ; 6.76,9.304 12.05,16.585 ; 7.053,-9.708 12.05,-16.585 ; 7.237,-8.937 12.901,-15.931 ; 7.552,9.326 12.901,15.931 ; 7.695,8.546 13.717,15.234 ; 8.03,-8.918 13.717,-15.234 ; 8.132,-8.132 14.496,-14.496 ; 8.485,8.485 14.496,14.496 ; 8.546,7.695 15.234,13.717 ; 8.918,-8.03 15.234,-13.717 ; 8.937,-7.237 15.931,-12.901 ; 9.304,6.76 16.585,12.05 ; 9.326,7.552 15.931,12.901 ; 9.645,-6.263 17.193,-11.165 ; 9.708,-7.053 16.585,-12.05 ; 9.959,5.75 17.754,10.25 ; 10.064,6.536 17.193,11.165 ; 10.247,-5.221 18.266,-9.307 ; 10.392,-6 17.754,-10.25 ; 10.506,4.677 18.728,8.338 ; 10.692,5.448 18.266,9.307 ; 10.736,-4.121 19.138,-7.347 ; 10.937,3.554 19.497,6.335 ; 10.963,-4.881 18.728,-8.338 ; 11.108,-2.976 19.801,-5.306 ; 11.203,4.3 19.138,7.347 ; 11.249,2.391 20.052,4.262 ; 11.358,-1.799 20.248,-3.207 ; 11.413,-3.708 19.497,-6.335 ; 11.437,1.202 20.388,2.143 ; 11.484,-0.602 20.472,-1.073 ; 11.591,3.106 19.801,5.306 ; 11.738,-2.495 20.052,-4.262 ; 11.852,1.877 20.248,3.207 ; 11.934,-1.254 20.388,-2.143 ; 12.233,0.641 20.472,1.073 ; 12.25,0 20.5,0
  lines w0.35: -10.692,5.448 -9.801,4.994 ; -10.392,-6 -9.526,-5.5 ; -10.064,6.536 -9.225,5.991 ; -9.708,-7.053 -8.899,-6.466 ; -1.254,11.934 -1.15,10.94 ; -0.628,-11.984 -0.576,-10.985 ; 0,11 0,12 ; 0.576,-10.985 0.628,-11.984 ; 9.225,5.991 10.064,6.536 ; 9.526,-5.5 10.392,-6 ; 9.801,4.994 10.692,5.448 ; 10.049,-4.474 10.963,-4.881
  lines w0.5: -24.741,3.587 -20.5,0 ; -17.193,11.165 -17.835,16.059 -4.99,23.475 -1.073,20.472 ; -16.585,12.05 -16.889,15.612 -5.076,22.433 -2.143,20.388 ; -15.931,12.901 -15.96,15.323 -5.29,21.483 -3.207,20.248 ; -12.901,-15.931 -12.14,-19.24 -10.593,-20.133 -7.347,-19.138 ; -12.25,0 -11.996,-0.314 ; -12.233,-0.641 -11.996,-0.314 ; -12.05,-16.585 -11.495,-18.758 -10.497,-19.334 -8.338,-18.728 ; -11.984,0.628 -11.741,0.461 -10.991,0.432 -10.76,0.228 -10.733,-0.791 -10.954,-1.007 -11.701,-1.075 -11.934,-1.254 ; -11.496,-0.301 -11.996,-0.314 ; -11.437,1.202 -10.691,1.124 -10.017,0.503 -9.977,-1.027 -10.618,-1.682 -11.358,-1.799 ; -11.165,-17.193 -10.865,-18.262 -10.383,-18.541 -9.307,-18.266 ; -9.801,4.994 -9.294,2.176 -9.197,-2.771 -9.526,-5.5 ; -9.304,6.76 -8.638,6.81 -2.146,10.789 -1.799,11.358 ; -9.225,5.991 -8.213,6.133 -1.736,10.102 -1.15,10.94 ; -8.937,-7.237 -8.27,-7.253 -1.578,-10.886 -1.202,-11.437 ; -8.899,-6.466 -7.881,-6.554 -1.205,-10.179 -0.576,-10.985 ; -6.672,10.274 -6.27,10.232 ; -6.125,-10.609 -5.726,-10.546 ; -6.125,10.609 -6.27,10.232 ; -6.009,9.805 -6.27,10.232 ; -5.561,-10.915 -5.726,-10.546 ; -5.487,-10.106 -5.726,-10.546 ; 0,11 2.199,9.351 6.532,6.961 9.225,5.991 ; 0.576,-10.985 2.763,-9.137 6.999,-6.579 9.526,-5.5 ; 4.121,10.736 3.852,10.036 4.099,9.153 5.444,8.423 6.319,8.697 6.76,9.304 ; 4.262,20.052 7.678,21.681 14.937,17.489 15.234,13.717 ; 4.677,-10.506 4.372,-9.821 4.572,-8.926 5.878,-8.126 6.765,-8.354 7.237,-8.937 ; 4.881,10.963 4.919,10.671 4.605,9.99 4.681,9.69 5.577,9.204 5.87,9.303 6.27,9.937 6.536,10.064 ; 5.306,19.801 7.701,20.875 14.227,17.107 14.496,14.496 ; 5.448,-10.692 5.471,-10.399 5.122,-9.735 5.182,-9.432 6.051,-8.9 6.349,-8.983 6.781,-9.596 7.053,-9.708 ; 5.487,10.106 5.726,10.546 ; 5.561,10.915 5.726,10.546 ; 6.009,-9.805 6.27,-10.232 ; 6.125,-10.609 6.27,-10.232 ; 6.125,10.609 5.726,10.546 ; 6.335,19.497 7.705,20.072 13.53,16.709 13.717,15.234 ; 6.672,-10.274 6.27,-10.232 ; 7.347,-19.138 10.593,-20.133 12.14,-19.24 12.901,-15.931 ; 8.338,-18.728 10.497,-19.334 11.495,-18.758 12.05,-16.585 ; 9.307,-18.266 10.383,-18.541 10.865,-18.262 11.165,-17.193 ; 9.801,4.994 9.418,4.046 9.616,-3.548 10.049,-4.474 ; 10.506,4.677 10.217,4.076 10.416,-3.536 10.736,-4.121 ; 11.496,0.301 11.996,0.314 ; 12.233,0.641 11.996,0.314 ; 12.25,0 11.996,0.314 ; 17.754,10.25 19.429,15.733 ; 20.248,-3.207 22.732,-0.893 22.732,0.893 20.248,3.207 ; 20.388,-2.143 21.992,-0.576 21.992,0.576 20.388,2.143 ; 20.472,-1.073 21.248,-0.278 21.248,0.278 20.472,1.073
  lines w1: -24.741,3.587 cw(c0,0) 19.429,15.733 ccw(c0,0) -24.741,3.587
Mechanical 1:
  circle w0.2: c0,0 r5.5
  circle w0.2: c0,0 r20
  circle w0.2: c0,0 r12.5